# Altium footprint library EC12_Rotary_encoder.PcbLib: 1 footprints
Each footprint in its own frame and in the unit in brackets; x right, y up, seen from the top. Pads: shape width x height; smd on the part's side, far side on the other; paste and mask are expansions set on the pad; w line width, h text height; cw(c..) or ccw(c..) is an arc to the next point about the centre after c.
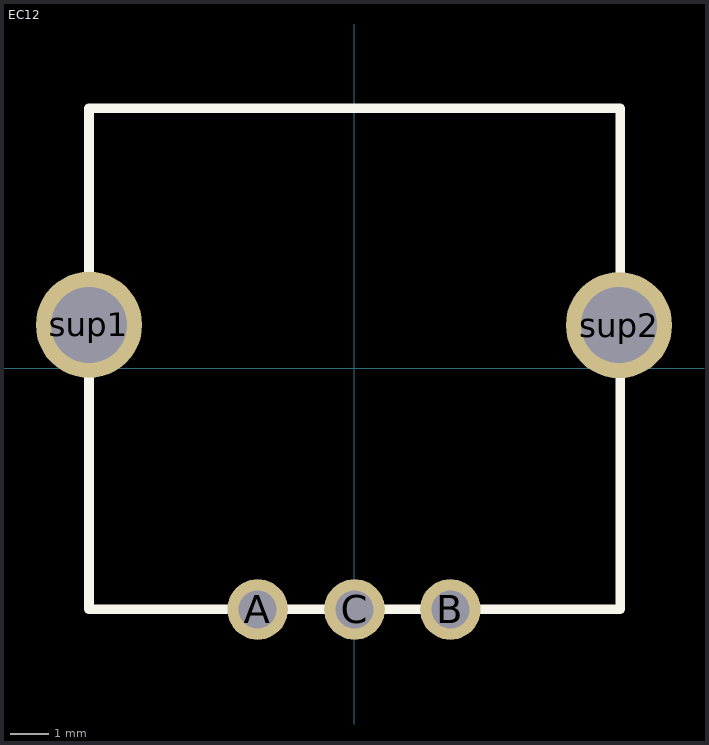
[diagram p0: the footprint, top view; thin cyan lines are the x and y axes]

## EC12 [mm] "Rotary Encoder"
pads (5):
  round 1.6 hole 1: A(-2.54,-6.35) B(2.54,-6.35) C(0.015,-6.35)
  round 2.8 hole 2: sup1(-6.985,1.15) sup2(6.985,1.143)
Top Overlay:
  lines w0.254: -6.985,6.85 -6.985,-6.35 7.015,-6.35 7.015,6.85 ; -6.985,6.858 7.015,6.858